# Altium schematic symbol library IC-LowPower.SchLib: 1 symbol
Pins are listed as number, name and electrical type; pins without a type are passive.

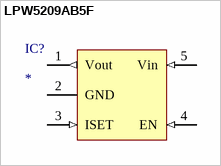
[diagram p0: symbol LPW5209AB5F]

## LPW5209AB5F
designator IC?
功率开关; Manufacturer_Name: LOWPOWER(微源半导体); Manufacturer_Part_Number: LPW5209AB5F; LCSC: C387727; Manufacturer_Name_1: *; Manufacturer_Part_Number_1: *
footprint SOT23-5 (SOT23, 5-Leads, Body 2.90x2.80mm, Pitch 0.95mm, IPC Medium Density)
pins: 1 Vout (out), 2 GND (power), 3 ISET (in), 4 EN (in), 5 Vin (in)